# Altium footprint library NORDIC_QFN40P600X600X90-48N.PcbLib: 1 footprints
Each footprint in its own frame and in the unit in brackets; x right, y up, seen from the top. Pads: shape width x height; smd on the part's side, far side on the other; paste and mask are expansions set on the pad; w line width, h text height; cw(c..) or ccw(c..) is an arc to the next point about the centre after c.
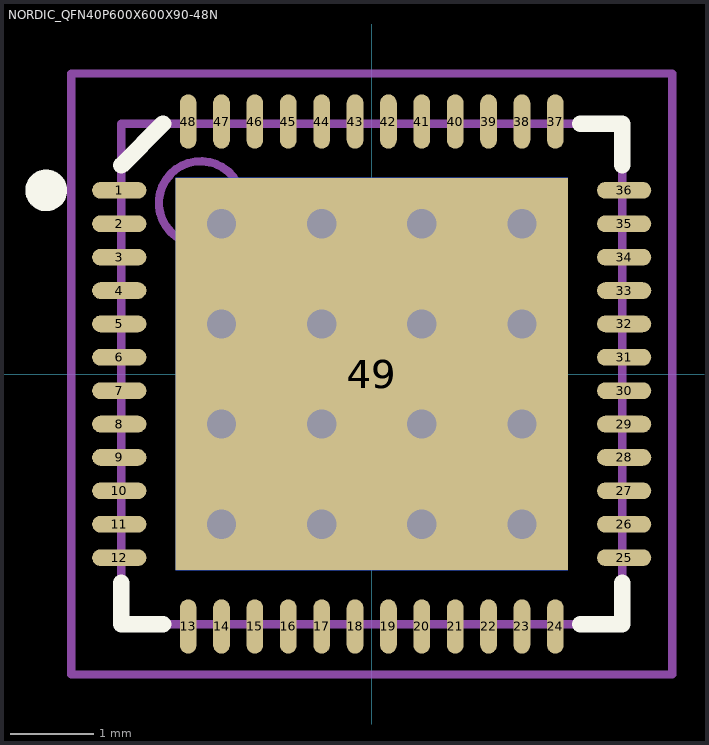
[diagram p0: the footprint, top view; thin cyan lines are the x and y axes]

## NORDIC_QFN40P600X600X90-48N [mm] "Nordic QFN 40 pin footprint for nNRF51822"
pads (50):
  oval 0.65x0.2 smd: 1(-3.025,2.2) 2(-3.025,1.8) 3(-3.025,1.4) 4(-3.025,1) 5(-3.025,0.6) 6(-3.025,0.2) 7(-3.025,-0.2) 8(-3.025,-0.6) 9(-3.025,-1) 10(-3.025,-1.4) 11(-3.025,-1.8) 12(-3.025,-2.2) 25(3.025,-2.2) 26(3.025,-1.8) 27(3.025,-1.4) 28(3.025,-1) 29(3.025,-0.6) 30(3.025,-0.2) 31(3.025,0.2) 32(3.025,0.6) 33(3.025,1) 34(3.025,1.4) 35(3.025,1.8) 36(3.025,2.2)
  oval 0.2x0.65 smd: 13(-2.2,-3.025) 14(-1.8,-3.025) 15(-1.4,-3.025) 16(-1,-3.025) 17(-0.6,-3.025) 18(-0.2,-3.025) 19(0.2,-3.025) 20(0.6,-3.025) 21(1,-3.025) 22(1.4,-3.025) 23(1.8,-3.025) 24(2.2,-3.025) 37(2.2,3.025) 38(1.8,3.025) 39(1.4,3.025) 40(1,3.025) 41(0.6,3.025) 42(0.2,3.025) 43(-0.2,3.025) 44(-0.6,3.025) 45(-1,3.025) 46(-1.4,3.025) 47(-1.8,3.025) 48(-2.2,3.025)
  rect 4.7x4.7 smd: 49(0,0)
  rect 4.7x4.7 smd far side: 49(0,0)
via 1.8,-1.8 diameter 0.8 hole 0.35
via 0.6,-1.8 diameter 0.8 hole 0.35
via -0.6,-1.8 diameter 0.8 hole 0.35
via -1.8,-1.8 diameter 0.8 hole 0.35
via 1.8,-0.6 diameter 0.8 hole 0.35
via 0.6,-0.6 diameter 0.8 hole 0.35
via -0.6,-0.6 diameter 0.8 hole 0.35
via -1.8,-0.6 diameter 0.8 hole 0.35
via 1.8,0.6 diameter 0.8 hole 0.35
via 0.6,0.6 diameter 0.8 hole 0.35
via -0.6,0.6 diameter 0.8 hole 0.35
via -1.8,0.6 diameter 0.8 hole 0.35
via 1.8,1.8 diameter 0.8 hole 0.35
via 0.6,1.8 diameter 0.8 hole 0.35
via -0.6,1.8 diameter 0.8 hole 0.35
via -1.8,1.8 diameter 0.8 hole 0.35
Top Overlay:
  circle w0.25: c-3.9,2.2 r0.125
  lines w0.2: -3,-2.5 -3,-3 -2.5,-3 ; -3,2.5 -2.5,3 ; 2.5,-3 3,-3 3,-2.5 ; 2.5,3 3,3 3,2.5
Top Comp Body:
  circle w0.1: c-2.05,2.05 r0.5
  lines w0.1: -3,-3 3,-3 3,3 -3,3 -3,-3
Top Courtyard:
  lines w0.1: -0.5,0 0.5,0 ; 0,-0.5 0,0.5 ; -3.6,-3.6 3.6,-3.6 3.6,3.6 -3.6,3.6 -3.6,-3.6
3D body: height 0.9, standoff 0, extent -3,-3 3,3